# EAGLE library part APA102C (library launchpadParts)
APA201C RGB LED using the SPI interface. 5050 SMD package Sold by Adafruit as Dotstars Resources: Datasheet <https://cdn-shop.adafruit.com/datasheets/APA102.pdf>
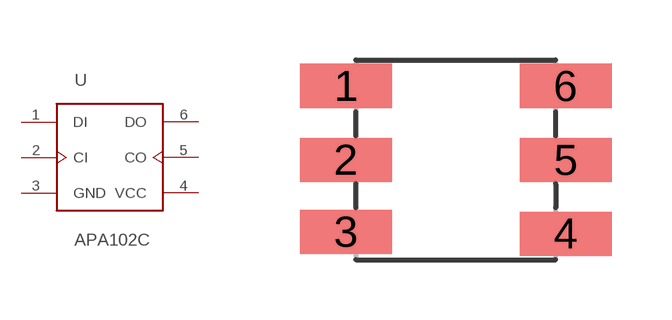
[diagram p0: symbol with the pads of APA102C-5050-SMD; footprint APA102C-5050-SMD]

Designator prefix -

## APA102C  [APA102C-5050-SMD]
1  DI  in
2  CI  in
3  GND  pwr
4  VCC  pwr
5  CO  out
6  DO  out

## Footprint APA102C-5050-SMD (pad centres in mm)
smd 2.3 x 1.1: 1 -2.75,1.85; 2 -2.75,0; 3 -2.75,-1.8; 4 2.75,-1.85; 5 2.75,0; 6 2.75,1.85